# Altium schematic symbol library TI_MAX3232E.SchLib: 1 symbol
Pins are listed as number, name and electrical type; pins without a type are passive.

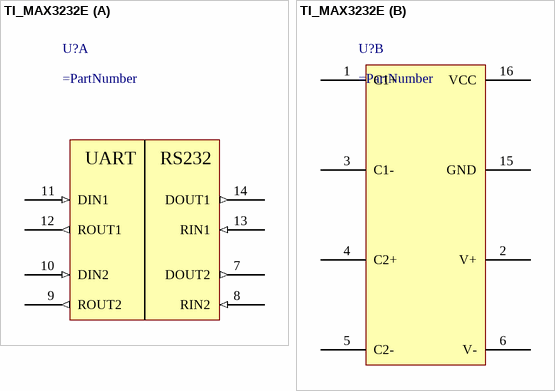
[diagram p0: symbol TI_MAX3232E]

## TI_MAX3232E
designator U?
part A pins: 7 DOUT2 (out), 8 RIN2 (in), 9 ROUT2 (out), 10 DIN2 (in), 11 DIN1 (in), 12 ROUT1 (out), 13 RIN1 (in), 14 DOUT1 (out)
part B pins: 1 C1+, 2 V+, 3 C1-, 4 C2+, 5 C2-, 6 V-, 15 GND, 16 VCC
part A text: UART; RS232